# EAGLE library part LCD-HD44780 (library RoboJackets-Boards)
20x4 LCD Module
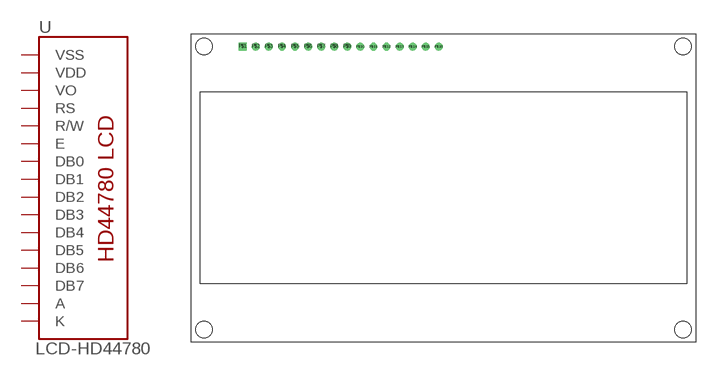
[diagram p5: symbol with the pads of LCD-20X4-4HOLES; footprint LCD-20X4-4HOLES]

Designator prefix -

## LCD-HD447804-HOLES20X4-4HOLES (DKPN: 67-1774-ND)  [LCD-20X4-4HOLES]
P$1  VSS  pwr
P$2  VDD  pwr
P$3  VO
P$4  RS  in
P$5  R/W  in
P$6  E  in
P$7  DB0
P$8  DB1
P$9  DB2
P$10  DB3
P$11  DB4
P$12  DB5
P$13  DB6
P$14  DB7
P$15  A  pwr
P$16  K  pwr

## Footprint LCD-20X4-4HOLES (pad centres in mm)
drill 1.016 square: P$1 10,57.5
drill 1.016: P$2 12.54,57.5; P$3 15.08,57.5; P$4 17.62,57.5; P$5 20.16,57.5; P$6 22.7,57.5; P$7 25.24,57.5; P$8 27.78,57.5; P$9 30.32,57.5; P$10 32.86,57.5; P$11 35.4,57.5; P$12 37.94,57.5; P$13 40.48,57.5; P$14 43.02,57.5; P$15 45.56,57.5; P$16 48.1,57.5
hole 3.2 at 2.5,2.5
hole 3.2 at 2.5,57.5
hole 3.2 at 95.5,57.5
hole 3.2 at 95.5,2.5